# EAGLE library part SX1268 (library SX1268)
LoRa Connect Long Range Low Power LoRa Transceiver +22dBm, China frequency bands Source: Datasheet <https://semtech.my.salesforce.com/sfc/p/E0000000JelG/a/2R000000HTIE/.wr7MYcDJegmsXUflvtVGp7PiqAzdCaqRKXqRr3J8Y4>
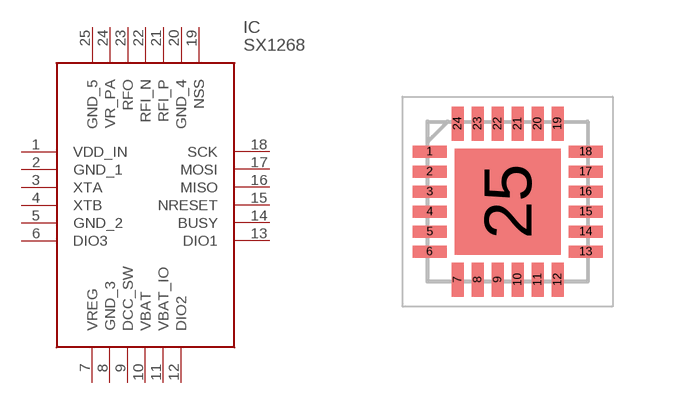
[diagram p0: symbol with the pads of QFN50P400X400X100-25N; footprint QFN50P400X400X100-25N]

Designator prefix IC

## SX1268 (Description: LoRa Connect Long Range Low Power LoRa Transceiver +22dBm, China frequency bands; Height: 1mm; Manufacturer_Name: SEMTECH; Manufacturer_Part_Number: SX1268)  [QFN50P400X400X100-25N]
1  VDD_IN
2  GND_1
3  XTA
4  XTB
5  GND_2
6  DIO3
7  VREG
8  GND_3
9  DCC_SW
10  VBAT
11  VBAT_IO
12  DIO2
13  DIO1
14  BUSY
15  NRESET
16  MISO
17  MOSI
18  SCK
19  NSS
20  GND_4
21  RFI_P
22  RFI_N
23  RFO
24  VR_PA
25  GND_5

## Footprint QFN50P400X400X100-25N (pad centres in mm)
4x4mm QFN
smd 0.85 x 0.3: 1 -1.95,1.25; 2 -1.95,0.75; 3 -1.95,0.25; 4 -1.95,-0.25; 5 -1.95,-0.75; 6 -1.95,-1.25; 13 1.95,-1.25; 14 1.95,-0.75; 15 1.95,-0.25; 16 1.95,0.25; 17 1.95,0.75; 18 1.95,1.25
smd 0.3 x 0.85: 7 -1.25,-1.95; 8 -0.75,-1.95; 9 -0.25,-1.95; 10 0.25,-1.95; 11 0.75,-1.95; 12 1.25,-1.95; 19 1.25,1.95; 20 0.75,1.95; 21 0.25,1.95; 22 -0.25,1.95; 23 -0.75,1.95; 24 -1.25,1.95
smd 2.65 x 2.65: 25 0,0